# Altium integrated library EEUFM1H101B.IntLib: 1 symbol
Pins are listed as number, name and electrical type; pins without a type are passive.

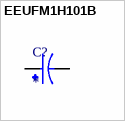
[diagram p0: symbol EEUFM1H101B]

## EEUFM1H101B
designator C?
Cap Aluminum Lytic 100uF 50V 20% (8 X 11.5mm) Radial 5mm 870mA 3000h 105C Ammo Pack; MP: EEUFM1H101B; MF: Panasonic; Package: RADIAL-2 Panasonic; Check_prices: https://www.snapeda.com/parts/EEUFM1H101B/Panasonic/view-part/5783638/?ref=eda; Value: *; SnapEDA_Link: https://www.snapeda.com/parts/EEUFM1H101B/Panasonic/view-part/5783638/?ref=snap; Price: None; Availability: In Stock
footprint CAPPRD500W60D800H1150
pins: N, P